# Altium footprint library vga.PcbLib: 95 footprints (part 6 of 7)
Each footprint in its own frame and in the unit in brackets; x right, y up, seen from the top. Pads: shape width x height; smd on the part's side, far side on the other; paste and mask are expansions set on the pad; w line width, h text height; cw(c..) or ccw(c..) is an arc to the next point about the centre after c.
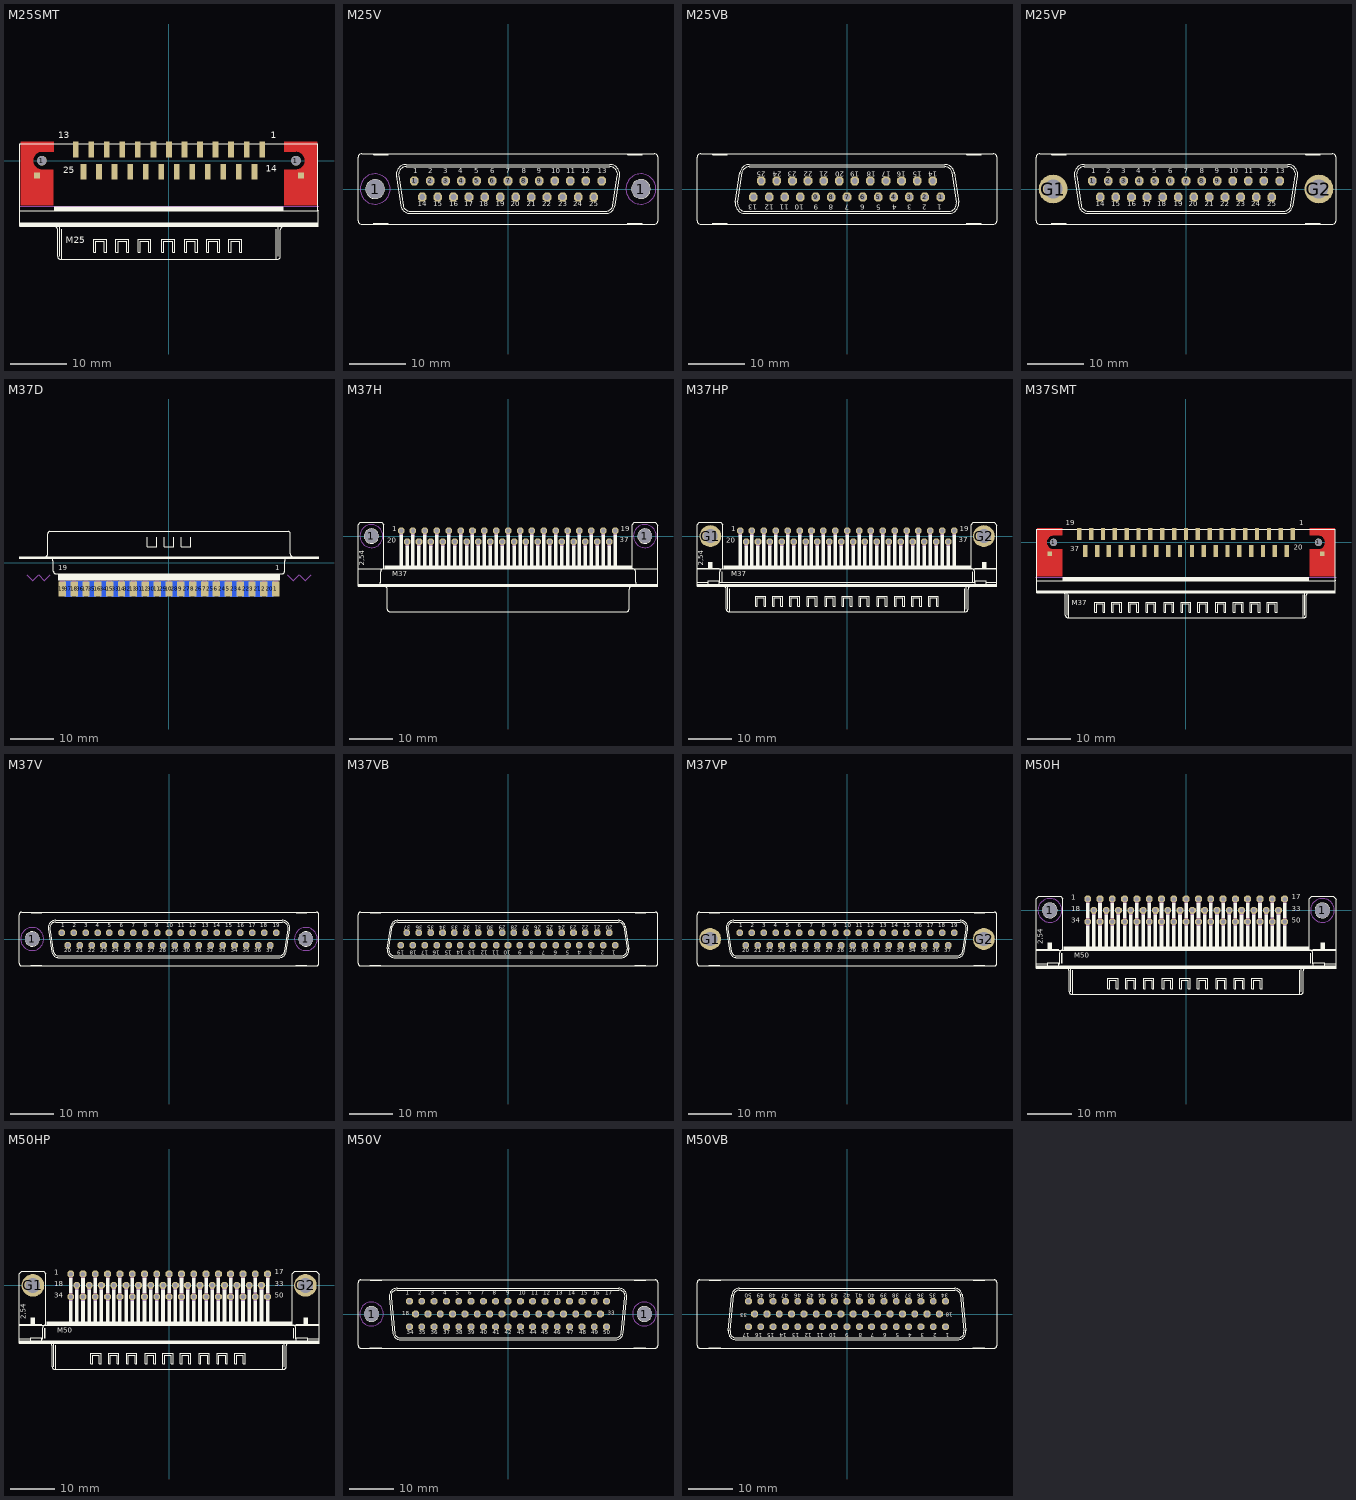
[diagram p5: the footprints below, top view; thin cyan lines are the x and y axes]

## M25SMT [mil]
pads (29):
  round 67 hole 67: 1(-888.58,0) 1(889,0)
  rect 40x111 smd: 1(652,78) 2(544,78) 3(435,78) 4(326,78) 5(218,78) 6(109,78) 7(0,78) 8(-108.66,78) 9(-217.32,78) 10(-325.98,78) 11(-434.65,78) 12(-543.31,78) 13(-651.97,78) 14(598,-77.76) 15(489,-77.76) 16(381,-77.76) 17(272,-77.76) 18(163,-77.76) 19(55,-77.76) 20(-54.33,-77.76) 21(-162.99,-77.76) 22(-271.65,-77.76) 23(-380.31,-77.76) 24(-488.98,-77.76) 25(-597.64,-77.76)
  rect 40x40 smd: S@1(924,-104.33) S@2(-923.03,-103.35)
Top Layer:
  region: -1036.52,-312.5 -807.87,-312.5 -807.87,-62.5 -886.52,-62.8 -898.82,-61.59 -910.65,-58 -921.55,-52.18 -931.1,-44.34 -938.94,-34.78 -944.77,-23.88 -948.36,-12.05 -949.57,0.25 -948.36,12.55 -944.77,24.38 -938.94,35.28 -931.1,44.84 -921.55,52.68 -910.65,58.5 -898.82,62.09 -886.52,63.3 -886.52,63 -806.89,63 -806.89,131 -1036.52,131
  region: 1037,-312.5 808,-312.5 808,-62.5 887,-62.8 887.01,-62.8 899.31,-61.59 911.13,-58 922.04,-52.18 931.59,-44.34 939.43,-34.78 945.26,-23.88 948.85,-12.05 950.06,0.25 948.85,12.55 945.26,24.38 939.43,35.28 931.59,44.84 922.04,52.68 911.13,58.5 899.31,62.09 887.01,63.3 887,63.3 887,63 807,63 807,131 1037,131
Top Overlay:
  rectangle: -799.21,-351.18 799,-321.18
  rectangle: -1045.28,-460 1045,-434.65
  lines w6: -804.02,-460 cw(c-804.02,-485) -779.02,-485 -779.02,-670 ccw(c-759.02,-670) -759.02,-690 -749.02,-690 ; -764.02,-670 -764.02,-460 ; -749.02,-480 -749.02,-690 ; 750,-480 750,-690 ; 765,-670 765,-460 ; 805,-460 ccw(c805,-485) 780,-485 780,-670 cw(c760,-670) 760,-690 750,-690 ; -1044.02,-351.18 -1044.02,-460 -764.02,-460 ; -1044.02,-351.18 -1042.13,-346.18 -1042.13,119 1043,119 1043,-346.18 1045,-351.18 ; -1044.02,-351.18 -799.02,-351.18 ; -799.02,-351.18 800,-351.18 ; -799.02,-351.18 -799.02,-321.18 800,-321.18 800,-351.18 ; -764.02,-460 765,-460 ; -749.02,-690 750,-690 ; 765,-460 1045,-460 1045,-351.18 ; 800,-351.18 1045,-351.18 ; -525.98,-640 -510.98,-640 -510.98,-565 -450.98,-565 -450.98,-640 -435.98,-640 -435.98,-550 -525.98,-550 -525.98,-640 ; -370.98,-640 -355.98,-640 -355.98,-565 -295.98,-565 -295.98,-640 -280.98,-640 -280.98,-550 -370.98,-550 -370.98,-640 ; -215.98,-640 -200.98,-640 -200.98,-565 -140.98,-565 -140.98,-640 -125.98,-640 -125.98,-550 -215.98,-550 -215.98,-640 ; -50.98,-640 -35.98,-640 -35.98,-565 25,-565 25,-640 40,-640 40,-550 -50.98,-550 -50.98,-640 ; 110,-640 125,-640 125,-565 185,-565 185,-640 200,-640 200,-550 110,-550 110,-640 ; 265,-640 280,-640 280,-565 340,-565 340,-640 355,-640 355,-550 265,-550 265,-640 ; 420,-640 435,-640 435,-565 495,-565 495,-640 510,-640 510,-550 420,-550 420,-640
  text "13" at -775,138 h77.5
  text "1" at 713,138 h77.5
  text "25" at -740.63,-105.59 h77.5
  text "14" at 676,-93.7 h77.5
  text "M25" at -721.22,-594.65 h77.5
Mechanical 1:
  lines w0: -1049.11,-318.9 1050,-318.9
Mechanical 2:
  text ">NAME" at 538,213 h108.5
Mechanical 4:
  text ">VALUE" at -887.5,213 h108.5

## M25V [mil]
pads (27):
  round 130 hole 130: 1(-926,0) 1(926,0)
  oct 60x60 hole 40: 1(-652,56) 2(-543,56) 3(-435,56) 4(-326,56) 5(-217,56) 6(-109,56) 7(0,56) 8(109,56) 9(217,56) 10(326,56) 11(435,56) 12(543,56) 13(652,56) 14(-598,-56) 15(-489,-56) 16(-380,-56) 17(-272,-56) 18(-163,-56) 19(-54,-56) 20(54,-56) 21(163,-56) 22(272,-56) 23(380,-56) 24(489,-56) 25(598,-56)
Top Overlay:
  circle w6: c-926,-1 r65
  circle w6: c926,0 r65
  lines w6: -777,92 -746,-116 ; -776.68,89 cw(c-710.14,102.17) -710,170 710,170 cw(c710.29,102.03) 777,89 ; -762,92 -731,-116 ; -761.97,92 cw(c-710.16,102.2) -710,155 710,155 cw(c710.22,102.06) 762,91 731,-115 ; -747.4,-110.99 ccw(c-680,-102) -680,-170 680,-170 ccw(c680.04,-101.94) 748,-105.7 ; -731.3,-115.33 ccw(c-680,-102) -680,-155 680,-155 ccw(c680.23,-101.7) 732,-114.37 ; 747,-113 777,91 ; -935,-245 -935,-240 -835,-240 -835,-245 ; -935,-245 -835,-245 ; -935,-245 -1020,-245 cw(c-1020,-220) -1045,-220 -1045,220 cw(c-1020,220) -1020,245 -935,245 ; -935,245 -935,240 -835,240 -835,245 ; -935,245 -835,245 ; -835,-245 835,-245 ; -835,245 835,245 ; 835,-245 835,-240 935,-240 935,-245 ; 835,-245 935,-245 ; 835,245 835,240 935,240 935,245 ; 835,245 935,245 ; 935,-245 1020,-245 ccw(c1020,-220) 1045,-220 1045,220 ccw(c1020,220) 1020,245 935,245
  text "1" at -660,95 h60.45
  text "2" at -555,95 h60.45
  text "3" at -450,95 h60.45
  text "4" at -345,95 h60.45
  text "5" at -235,95 h60.45
  text "6" at -125,95 h60.45
  text "7" at -15,95 h60.45
  text "8" at 95,95 h60.45
  text "9" at 200,95 h60.45
  text "10" at 300,95 h60.45
  text "11" at 405,95 h60.45
  text "12" at 510,95 h60.45
  text "13" at 625,95 h60.45
  text "14" at -630,-135 h60.45
  text "15" at -520,-135 h60.45
  text "16" at -410,-135 h60.45
  text "17" at -305,-135 h60.45
  text "18" at -200,-135 h60.45
  text "19" at -85,-135 h60.45
  text "20" at 20,-135 h60.45
  text "21" at 130,-135 h60.45
  text "22" at 240,-135 h60.45
  text "23" at 350,-135 h60.45
  text "24" at 455,-135 h60.45
  text "25" at 565,-135 h60.45
Mechanical 2:
  text ">NAME" at -1035,275 h108.5
Mechanical 4:
  text ">VALUE" at -100,275 h108.5
Mechanical 9:
  circle w0: c926,0 r105
  circle w0: c-926,0 r105
Mechanical 10:
  circle w0: c926,0 r105
  circle w0: c-926,0 r105
Mechanical 16:
  circle w16: c-109,56 r10
  circle w16: c-163,-56 r10
  circle w16: c-217,56 r10
  circle w16: c0,56 r10
  circle w16: c-54,-56 r10
  circle w16: c54,-56 r10
  circle w16: c109,56 r10
  circle w16: c217,56 r10
  circle w16: c163,-56 r10
  circle w16: c272,-56 r10
  circle w16: c326,56 r10
  circle w16: c380,-56 r10
  circle w16: c435,56 r10
  circle w16: c489,-56 r10
  circle w16: c543,56 r10
  circle w16: c652,56 r10
  circle w16: c598,-56 r10
  circle w16: c-326,56 r10
  circle w16: c-272,-56 r10
  circle w16: c-380,-56 r10
  circle w16: c-435,56 r10
  circle w16: c-543,56 r10
  circle w16: c-652,56 r10
  circle w16: c-489,-56 r10
  circle w16: c-598,-56 r10

## M25VB [mil]
pads (25):
  oct 60x60 hole 40: 1(652,-56) 2(543,-56) 3(435,-56) 4(326,-56) 5(217,-56) 6(109,-56) 7(0,-56) 8(-109,-56) 9(-217,-56) 10(-326,-56) 11(-435,-56) 12(-543,-56) 13(-652,-56) 14(598,56) 15(489,56) 16(380,56) 17(272,56) 18(163,56) 19(54,56) 20(-54,56) 21(-163,56) 22(-272,56) 23(-380,56) 24(-489,56) 25(-598,56)
Top Overlay:
  lines w6: -777,-91 -747,113 ; -776.69,-88.67 ccw(c-710,-101.99) -710,-170 710,-170 ccw(c710.16,-101.87) 777,-88.67 ; -762,-91 -731,115 ; -761.79,-90.7 ccw(c-710,-101.99) -710,-155 710,-155 ccw(c710.01,-101.99) 762,-91.61 ; -747.89,106 cw(c-680.14,102.15) -680,170 680,170 cw(c680.3,101.66) 748,111 ; -731.52,115 cw(c-680.39,102.31) -680,155 680,155 cw(c680.78,101.88) 732,116 ; 731,116 762,-92 ; 746,116 777,-92 ; -935,-245 -1020,-245 cw(c-1020,-220) -1045,-220 -1045,220 cw(c-1020,220) -1020,245 -935,245 ; -935,-245 -935,-240 -835,-240 -835,-245 ; -935,-245 -835,-245 ; -935,245 -835,245 ; -935,245 -935,240 -835,240 -835,245 ; -835,-245 835,-245 ; -835,245 835,245 ; 835,-245 835,-240 935,-240 935,-245 ; 835,-245 935,-245 ; 835,245 935,245 ; 835,245 835,240 935,240 935,245 ; 935,-245 1020,-245 ccw(c1020,-220) 1045,-220 1045,220 ccw(c1020,220) 1020,245 935,245
  text "1" at 660,-95 h60.45
  text "2" at 555,-95 h60.45
  text "3" at 450,-95 h60.45
  text "4" at 345,-95 h60.45
  text "5" at 235,-95 h60.45
  text "6" at 125,-95 h60.45
  text "7" at 15,-95 h60.45
  text "8" at -95,-95 h60.45
  text "9" at -200,-95 h60.45
  text "10" at -300,-95 h60.45
  text "11" at -405,-95 h60.45
  text "12" at -510,-95 h60.45
  text "13" at -625,-95 h60.45
  text "14" at 630,135 h60.45
  text "15" at 520,135 h60.45
  text "16" at 410,135 h60.45
  text "17" at 305,135 h60.45
  text "18" at 200,135 h60.45
  text "19" at 85,135 h60.45
  text "20" at -20,135 h60.45
  text "21" at -130,135 h60.45
  text "22" at -240,135 h60.45
  text "23" at -350,135 h60.45
  text "24" at -455,135 h60.45
  text "25" at -565,135 h60.45
Mechanical 2:
  text ">NAME" at -1035,275 h108.5
Mechanical 4:
  text ">VALUE" at -100,275 h108.5
Mechanical 16:
  circle w16: c109,-56 r10
  circle w16: c163,56 r10
  circle w16: c217,-56 r10
  circle w16: c0,-56 r10
  circle w16: c54,56 r10
  circle w16: c-54,56 r10
  circle w16: c-109,-56 r10
  circle w16: c-217,-56 r10
  circle w16: c-163,56 r10
  circle w16: c-272,56 r10
  circle w16: c-326,-56 r10
  circle w16: c-380,56 r10
  circle w16: c-435,-56 r10
  circle w16: c-489,56 r10
  circle w16: c-543,-56 r10
  circle w16: c-652,-56 r10
  circle w16: c-598,56 r10
  circle w16: c326,-56 r10
  circle w16: c272,56 r10
  circle w16: c380,56 r10
  circle w16: c435,-56 r10
  circle w16: c543,-56 r10
  circle w16: c652,-56 r10
  circle w16: c489,56 r10
  circle w16: c598,56 r10

## M25VP [mil]
pads (27):
  oct 60x60 hole 40: 1(-652,56) 2(-543,56) 3(-435,56) 4(-326,56) 5(-217,56) 6(-109,56) 7(0,56) 8(109,56) 9(217,56) 10(326,56) 11(435,56) 12(543,56) 13(652,56) 14(-598,-56) 15(-489,-56) 16(-380,-56) 17(-272,-56) 18(-163,-56) 19(-54,-56) 20(54,-56) 21(163,-56) 22(272,-56) 23(380,-56) 24(489,-56) 25(598,-56)
  round 200 hole 130: G1(-926,0) G2(926,0)
Top Overlay:
  circle w6: c-926,-1 r65
  circle w6: c926,0 r65
  lines w6: -777,92 -746,-116 ; -776.68,89 cw(c-710.14,102.17) -710,170 710,170 cw(c710.29,102.03) 777,89 ; -762,92 -731,-116 ; -761.97,92 cw(c-710.16,102.2) -710,155 710,155 cw(c710.22,102.06) 762,91 731,-115 ; -747.4,-110.99 ccw(c-680,-102) -680,-170 680,-170 ccw(c680.04,-101.94) 748,-105.7 ; -731.3,-115.33 ccw(c-680,-102) -680,-155 680,-155 ccw(c680.23,-101.7) 732,-114.37 ; 747,-113 777,91 ; -935,-245 -935,-240 -835,-240 -835,-245 ; -935,-245 -835,-245 ; -935,-245 -1020,-245 cw(c-1020,-220) -1045,-220 -1045,220 cw(c-1020,220) -1020,245 -935,245 ; -935,245 -935,240 -835,240 -835,245 ; -935,245 -835,245 ; -835,-245 835,-245 ; -835,245 835,245 ; 835,-245 835,-240 935,-240 935,-245 ; 835,-245 935,-245 ; 835,245 835,240 935,240 935,245 ; 835,245 935,245 ; 935,-245 1020,-245 ccw(c1020,-220) 1045,-220 1045,220 ccw(c1020,220) 1020,245 935,245
  text "1" at -660,95 h60.45
  text "2" at -555,95 h60.45
  text "3" at -450,95 h60.45
  text "4" at -345,95 h60.45
  text "5" at -235,95 h60.45
  text "6" at -125,95 h60.45
  text "7" at -15,95 h60.45
  text "8" at 95,95 h60.45
  text "9" at 200,95 h60.45
  text "10" at 300,95 h60.45
  text "11" at 405,95 h60.45
  text "12" at 510,95 h60.45
  text "13" at 625,95 h60.45
  text "14" at -630,-135 h60.45
  text "15" at -520,-135 h60.45
  text "16" at -410,-135 h60.45
  text "17" at -305,-135 h60.45
  text "18" at -200,-135 h60.45
  text "19" at -85,-135 h60.45
  text "20" at 20,-135 h60.45
  text "21" at 130,-135 h60.45
  text "22" at 240,-135 h60.45
  text "23" at 350,-135 h60.45
  text "24" at 455,-135 h60.45
  text "25" at 565,-135 h60.45
Mechanical 2:
  text ">NAME" at -1035,275 h108.5
Mechanical 4:
  text ">VALUE" at -100,275 h108.5
Mechanical 16:
  circle w16: c-109,56 r10
  circle w16: c-163,-56 r10
  circle w16: c-217,56 r10
  circle w16: c0,56 r10
  circle w16: c-54,-56 r10
  circle w16: c54,-56 r10
  circle w16: c109,56 r10
  circle w16: c217,56 r10
  circle w16: c163,-56 r10
  circle w16: c272,-56 r10
  circle w16: c326,56 r10
  circle w16: c380,-56 r10
  circle w16: c435,56 r10
  circle w16: c489,-56 r10
  circle w16: c543,56 r10
  circle w16: c652,56 r10
  circle w16: c598,-56 r10
  circle w16: c-326,56 r10
  circle w16: c-272,-56 r10
  circle w16: c-380,-56 r10
  circle w16: c-435,56 r10
  circle w16: c-543,56 r10
  circle w16: c-652,56 r10
  circle w16: c-489,-56 r10
  circle w16: c-598,-56 r10

## M37D [mil]
pads (37):
  rect 67x138 smd: 1(973,-237.99) 2(865,-237.98) 3(756,-237.98) 4(649,-237.98) 5(540,-237.99) 6(432,-237.98) 7(325,-237.98) 8(216,-237.98) 9(109,-237.98) 10(0,-237.99) 11(-108.01,-237.98) 12(-215.99,-237.98) 13(-324.01,-237.98) 14(-431.99,-237.98) 15(-540,-237.99) 16(-648.01,-237.98) 17(-755.99,-237.98) 18(-864.01,-237.98) 19(-972.01,-237.99)
  rect 67x138 smd far side: 20(918,-238) 21(810,-238) 22(702,-238) 23(594,-238) 24(486,-238) 25(378,-238) 26(270,-238) 27(162,-238) 28(54,-238) 29(-54,-238) 30(-162,-238) 31(-270,-238) 32(-378,-238) 33(-486,-238) 34(-594,-238) 35(-702,-238) 36(-810,-238) 37(-918,-238)
Top Overlay:
  rectangle: -1366.14,36 1367,56
  rectangle: -1011.81,-161.42 1012,-98.43
  lines w6: -1129.02,56 ccw(c-1129.02,81) -1104.02,81 -1104.02,266 cw(c-1084.02,266) -1084.02,286 1085,286 cw(c1085,266) 1105,266 1105,81 ccw(c1130,81) 1130,56 ; -1058,40 -1058,20 -1053,20 -1053,-75 ccw(c-1028,-75) -1028,-100 ; -1028.74,-100 1029,-100 ; -200,235 -200,145 -110,145 -110,235 ; -45,235 -45,145 45,145 45,235 ; 110,235 110,145 200,145 200,235 ; 1028,-100 ccw(c1028,-75) 1053,-75 1053,20 1058,20 1058,40
  text "1" at 967,-85.77 h77.5
  text "19" at -1007.49,-85.77 h77.5
Bottom Overlay:
  text "37" at -869.69,-24.61 h77.5
  text "20" at 963,-28.54 h77.5
Mechanical 2:
  text ">NAME" at -404,-454 h108.5
Mechanical 4:
  text ">VALUE" at -4,-454 h108.5
Mechanical 13:
  lines w10: -1296,-108 -1242,-162 -1188,-108 -1134,-162 -1080,-108 ; 1080,-108 1134,-162 1188,-108 1242,-162 1296,-108
  text "Board" at -1298,-100 h77.5
  text "Board" at 1098,-100 h77.5
Mechanical 16:
  rectangle: 949,-258.27 996,-159.84
  rectangle: 841,-258.27 888,-159.84
  rectangle: 733,-258.27 780,-159.84
  rectangle: 625,-258.27 672,-159.84
  rectangle: 517,-258.27 564,-159.84
  rectangle: 409,-258.27 456,-159.84
  rectangle: 301,-258.27 348,-159.84
  rectangle: 193,-258.27 240,-159.84
  rectangle: 85,-258.27 132,-159.84
  rectangle: -23.62,-258.27 24,-159.84
  rectangle: -131.62,-258.27 -84.38,-159.84
  rectangle: -239.62,-258.27 -192.38,-159.84
  rectangle: -347.62,-258.27 -300.38,-159.84
  rectangle: -455.62,-258.27 -408.38,-159.84
  rectangle: -563.62,-258.27 -516.38,-159.84
  rectangle: -671.62,-258.27 -624.38,-159.84
  rectangle: -779.62,-258.27 -732.38,-159.84
  rectangle: -887.62,-258.27 -840.38,-159.84
  rectangle: -995.62,-258.27 -948.38,-159.84
  text "M37D" at -1002,181 h77.5
Mechanical 30:
  rectangle: 895,-258.27 942,-159.84
  rectangle: 787,-258.27 834,-159.84
  rectangle: 679,-258.27 726,-159.84
  rectangle: 571,-258.27 618,-159.84
  rectangle: 463,-258.27 510,-159.84
  rectangle: 355,-258.27 402,-159.84
  rectangle: 247,-258.27 294,-159.84
  rectangle: 139,-258.27 186,-159.84
  rectangle: 31,-258.27 78,-159.84
  rectangle: -77.62,-258.27 -30.38,-159.84
  rectangle: -185.62,-258.27 -138.38,-159.84
  rectangle: -293.62,-258.27 -246.38,-159.84
  rectangle: -401.62,-258.27 -354.38,-159.84
  rectangle: -509.62,-258.27 -462.38,-159.84
  rectangle: -617.62,-258.27 -570.38,-159.84
  rectangle: -725.62,-258.27 -678.38,-159.84
  rectangle: -833.62,-258.27 -786.38,-159.84
  rectangle: -941.62,-258.27 -894.38,-159.84

## M37H [mil]
pads (39):
  round 130 hole 130: 1(-1250,0) 1(1250,0)
  oct 60x60 hole 40: 1(-978,50) 2(-870,50) 3(-761,50) 4(-652,50) 5(-544,50) 6(-435,50) 7(-326,50) 8(-217,50) 9(-109,50) 10(0,50) 11(109,50) 12(217,50) 13(326,50) 14(435,50) 15(543,50) 16(652,50) 17(761,50) 18(869,50) 19(978,50) 20(-924,-50) 21(-815,-50) 22(-707,-50) 23(-598,-50) 24(-489,-50) 25(-380,-50) 26(-272,-50) 27(-163,-50) 28(-54,-50) 29(54,-50) 30(163,-50) 31(272,-50) 32(380,-50) 33(489,-50) 34(598,-50) 35(706,-50) 36(815,-50) 37(924,-50)
Top Overlay:
  circle w6: c1250,0 r65
  circle w6: c-1250,0 r65
  rectangle: -1125,-300 1125,-270
  rectangle: -1370,-460 1370,-440
  rectangle: -994,-269 -962,16
  rectangle: -940,-269 -908,-84
  rectangle: -886,-269 -854,16
  rectangle: -831,-269 -799,-84
  rectangle: -777,-269 -745,16
  rectangle: -723,-269 -691,-84
  rectangle: -668,-269 -636,16
  rectangle: -614,-269 -582,-84
  rectangle: -560,-270 -528,15
  rectangle: -505,-270 -473,-85
  rectangle: -451,-270 -419,15
  rectangle: -396,-270 -364,-85
  rectangle: -342,-270 -310,15
  rectangle: -288,-270 -256,-85
  rectangle: -233,-270 -201,15
  rectangle: -179,-270 -147,-85
  rectangle: -125,-270 -93,15
  rectangle: -70,-270 -38,-85
  rectangle: -16,-270 16,15
  rectangle: 38,-270 70,-85
  rectangle: 93,-270 125,15
  rectangle: 147,-270 179,-85
  rectangle: 201,-270 233,15
  rectangle: 256,-270 288,-85
  rectangle: 310,-270 342,15
  rectangle: 364,-270 396,-85
  rectangle: 419,-270 451,15
  rectangle: 473,-270 505,-85
  rectangle: 527,-270 559,15
  rectangle: 582,-270 614,-85
  rectangle: 636,-270 668,15
  rectangle: 690,-270 722,-85
  rectangle: 745,-270 777,15
  rectangle: 799,-270 831,-85
  rectangle: 853,-270 885,15
  rectangle: 908,-270 940,-85
  rectangle: 962,-270 994,15
  lines w6: -1170,-440 -1170,-420 -1165,-420 -1165,-325 cw(c-1140,-325) -1140,-300 ; -1130,-460 cw(c-1130,-485) -1105,-485 -1105,-670 ccw(c-1085,-670) -1085,-690 -1075,-690 1075,-690 1085,-690 ccw(c1085,-670) 1105,-670 1105,-485 cw(c1130,-485) 1130,-460 ; 1140,-300 cw(c1140,-325) 1165,-325 1165,-420 1170,-420 1170,-440 ; -1370,-300 -1370,-420 -1370,-440 -1370,-460 -1090,-460 1090,-460 1370,-460 1370,-440 1370,-420 1370,-300 ; -1370,-300 -1370,-295 -1370,105 -1350,125 -1155,125 -1135,105 -1135,-300 ; -1370,-300 -1170,-300 -1135,-300 ; -1135,-300 -1125,-300 ; -1125,-300 1125,-300 ; -1125,-300 -1125,-270 1125,-270 1125,-300 ; 1125,-300 1135,-300 ; 1135,-300 1170,-300 1370,-300 ; 1135,-300 1135,105 1155,125 1345,125 1370,100 1370,-295 1370,-300
  text "1" at -1060,25 h77.5
  text "19" at 1030,25 h77.5
  text "20" at -1105,-80 h77.5
  text "37" at 1020,-75 h77.5
  text "2,54" at -1295,-270 h77.5
  text "M37" at -1060,-385 h77.5
Mechanical 2:
  text ">NAME" at -1365,175 h108.5
Mechanical 4:
  text ">VALUE" at -1025,-805 h108.5
Mechanical 9:
  circle w0: c1250,0 r105
  circle w0: c-1250,0 r105
Mechanical 10:
  circle w0: c1250,0 r105
  circle w0: c-1250,0 r105
Mechanical 16:
  lines w32: -978,5 -978,45 ; -924,-94 -924,-54 ; -870,5 -870,45 ; -815,-94 -815,-54 ; -761,5 -761,45 ; -707,-94 -707,-54 ; -652,5 -652,45 ; -598,-95 -598,-55 ; -544,5 -544,45 ; -489,-95 -489,-55 ; -435,5 -435,45 ; -380,-95 -380,-55 ; -326,5 -326,45 ; -272,-95 -272,-55 ; -217,5 -217,45 ; -163,-95 -163,-55 ; -109,5 -109,45 ; -54,-95 -54,-55 ; 0,5 0,45 ; 54,-95 54,-55 ; 109,5 109,45 ; 163,-95 163,-55 ; 217,5 217,45 ; 272,-95 272,-55 ; 326,5 326,45 ; 380,-95 380,-55 ; 435,5 435,45 ; 489,-95 489,-55 ; 543,5 543,45 ; 598,-95 598,-55 ; 652,5 652,45 ; 706,-95 706,-55 ; 761,5 761,45 ; 815,-95 815,-55 ; 869,5 869,45 ; 924,-95 924,-55 ; 978,5 978,45

## M37HP [mil]
pads (39):
  oct 60x60 hole 40: 1(-978,50) 2(-870,50) 3(-761,50) 4(-652,50) 5(-544,50) 6(-435,50) 7(-326,50) 8(-217,50) 9(-109,50) 10(0,50) 11(109,50) 12(217,50) 13(326,50) 14(435,50) 15(543,50) 16(652,50) 17(761,50) 18(869,50) 19(978,50) 20(-924,-50) 21(-815,-50) 22(-707,-50) 23(-598,-50) 24(-489,-50) 25(-380,-50) 26(-272,-50) 27(-163,-50) 28(-54,-50) 29(54,-50) 30(163,-50) 31(272,-50) 32(380,-50) 33(489,-50) 34(598,-50) 35(706,-50) 36(815,-50) 37(924,-50)
  round 200 hole 130: G1(-1250,0) G2(1250,0)
Top Overlay:
  drawing of 207 lines, arcs and shapes, not listed
  text "1" at -1060,25 h77.5
  text "19" at 1030,25 h77.5
  text "20" at -1105,-80 h77.5
  text "37" at 1020,-75 h77.5
  text "2,54" at -1295,-270 h77.5
  text "M37" at -1060,-385 h77.5
Mechanical 2:
  text ">NAME" at -1365,175 h108.5
Mechanical 4:
  text ">VALUE" at -1025,-805 h108.5
Mechanical 16:
  lines w32: -978,5 -978,45 ; -924,-94 -924,-54 ; -870,5 -870,45 ; -815,-94 -815,-54 ; -761,6 -761,46 ; -707,-94 -707,-54 ; -652,5 -652,45 ; -598,-95 -598,-55 ; -544,5 -544,45 ; -489,-95 -489,-55 ; -435,5 -435,45 ; -380,-95 -380,-55 ; -326,5 -326,45 ; -272,-95 -272,-55 ; -217,5 -217,45 ; -163,-95 -163,-55 ; -109,5 -109,45 ; -54,-95 -54,-55 ; 0,5 0,45 ; 54,-95 54,-55 ; 109,5 109,45 ; 163,-95 163,-55 ; 217,5 217,45 ; 272,-95 272,-55 ; 326,5 326,45 ; 380,-95 380,-55 ; 435,5 435,45 ; 489,-95 489,-55 ; 543,5 543,45 ; 598,-95 598,-55 ; 652,5 652,45 ; 706,-95 706,-55 ; 761,5 761,45 ; 815,-95 815,-55 ; 869,5 869,45 ; 924,-95 924,-55 ; 978,5 978,45

## M37SMT [mil]
pads (41):
  round 67 hole 67: 1(-1214.57,0) 1(1215,0)
  rect 40x111 smd: 1(978,78) 2(870,78) 3(761,78) 4(652,78) 5(544,78) 6(435,78) 7(326,78) 8(218,78) 9(109,78) 10(0,78) 11(-108.66,78) 12(-217.32,78) 13(-325.98,78) 14(-434.65,78) 15(-543.31,78) 16(-651.97,78) 17(-760.63,78) 18(-869.29,78) 19(-977.95,78) 20(924,-77.76) 21(815,-77.76) 22(707,-77.76) 23(598,-77.76) 24(489,-77.76) 25(381,-77.76) 26(272,-77.76) 27(163,-77.76) 28(55,-77.76) 29(-54.33,-77.76) 30(-162.99,-77.76) 31(-271.65,-77.76) 32(-380.31,-77.76) 33(-488.98,-77.76) 34(-597.64,-77.76) 35(-706.3,-77.76) 36(-814.96,-77.76) 37(-923.62,-77.76)
  rect 40x40 smd: S@1(1250,-104.33) S@2(-1249.02,-103.35)
Top Layer:
  region: -1362.5,-312.5 -1133.86,-312.5 -1133.86,-62.5 -1212.5,-62.8 -1224.8,-61.59 -1236.63,-58 -1247.53,-52.18 -1257.09,-44.34 -1264.93,-34.78 -1270.75,-23.88 -1274.34,-12.05 -1275.55,0.25 -1274.34,12.55 -1270.75,24.38 -1264.93,35.28 -1257.09,44.84 -1247.53,52.68 -1236.63,58.5 -1224.8,62.09 -1212.5,63.3 -1212.5,63 -1132.87,63 -1132.87,131 -1362.5,131
  region: 1363,-312.5 1134,-312.5 1134,-62.5 1213,-62.8 1213.01,-62.8 1225.31,-61.59 1237.13,-58 1248.04,-52.18 1257.59,-44.34 1265.43,-34.78 1271.26,-23.88 1274.85,-12.05 1276.06,0.25 1274.85,12.55 1271.26,24.38 1265.43,35.28 1257.59,44.84 1248.04,52.68 1237.13,58.5 1225.31,62.09 1213.01,63.3 1213,63.3 1213,63 1133,63 1133,131 1363,131
Top Overlay:
  rectangle: -1125,-351.18 1125,-321.18
  rectangle: -1370,-460 1370,-440
  lines w6: -1130,-460 cw(c-1130,-485) -1105,-485 -1105,-670 ccw(c-1085,-670) -1085,-690 -1075,-690 ; -1090,-670 -1090,-460 ; -1075,-480 -1075,-690 ; 1075,-480 1075,-690 ; 1090,-670 1090,-460 ; 1130,-460 ccw(c1130,-485) 1105,-485 1105,-670 cw(c1085,-670) 1085,-690 1075,-690 ; -1370,-351.18 -1370,-460 -1090,-460 ; -1370,-351.18 -1368.11,-346.18 -1368.11,119 1369,119 1369,-346.18 1370,-351.18 ; -1370,-351.18 -1125,-351.18 ; -1125,-351.18 1125,-351.18 ; -1125,-351.18 -1125,-321.18 1125,-321.18 1125,-351.18 ; -1090,-460 1090,-460 ; -1075,-690 1075,-690 ; 1090,-460 1370,-460 1370,-351.18 ; 1125,-351.18 1370,-351.18 ; -835,-640 -820,-640 -820,-565 -760,-565 -760,-640 -745,-640 -745,-550 -835,-550 -835,-640 ; -680,-640 -665,-640 -665,-565 -605,-565 -605,-640 -590,-640 -590,-550 -680,-550 -680,-640 ; -525,-640 -510,-640 -510,-565 -450,-565 -450,-640 -435,-640 -435,-550 -525,-550 -525,-640 ; -365,-640 -350,-640 -350,-565 -290,-565 -290,-640 -275,-640 -275,-550 -365,-550 -365,-640 ; -200,-640 -185,-640 -185,-565 -125,-565 -125,-640 -110,-640 -110,-550 -200,-550 -200,-640 ; -45,-640 -30,-640 -30,-565 30,-565 30,-640 45,-640 45,-550 -45,-550 -45,-640 ; 110,-640 125,-640 125,-565 185,-565 185,-640 200,-640 200,-550 110,-550 110,-640 ; 275,-640 290,-640 290,-565 350,-565 350,-640 365,-640 365,-550 275,-550 275,-640 ; 435,-640 450,-640 450,-565 510,-565 510,-640 525,-640 525,-550 435,-550 435,-640 ; 590,-640 605,-640 605,-565 665,-565 665,-640 680,-640 680,-550 590,-550 590,-640 ; 745,-640 760,-640 760,-565 820,-565 820,-640 835,-640 835,-550 745,-550 745,-640
  text "19" at -1100,138 h77.5
  text "1" at 1038,138 h77.5
  text "37" at -1062.5,-100 h77.5
  text "20" at 988,-87.5 h77.5
  text "M37" at -1047.2,-594.65 h77.5
Mechanical 1:
  lines w0: -1375.1,-318.9 1376,-318.9
Mechanical 2:
  text ">NAME" at 850,225 h108.5
Mechanical 4:
  text ">VALUE" at -1212.5,225 h108.5

## M37V [mil]
pads (39):
  round 130 hole 130: 1(-1250,0) 1(1250,0)
  oct 60x60 hole 40: 1(-978,56) 2(-870,56) 3(-761,56) 4(-652,56) 5(-544,56) 6(-435,56) 7(-326,56) 8(-217,56) 9(-109,56) 10(0,56) 11(109,56) 12(217,56) 13(326,56) 14(435,56) 15(543,56) 16(652,56) 17(761,56) 18(869,56) 19(978,56) 20(-924,-56) 21(-815,-56) 22(-707,-56) 23(-598,-56) 24(-489,-56) 25(-380,-56) 26(-272,-56) 27(-163,-56) 28(-54,-56) 29(54,-56) 30(163,-56) 31(272,-56) 32(380,-56) 33(489,-56) 34(598,-56) 35(706,-56) 36(815,-56) 37(924,-56)
Top Overlay:
  circle w6: c-1250,0 r65
  circle w6: c1250,0 r65
  lines w6: -1102,92 -1071,-116 ; -1101.68,89 cw(c-1035.14,102.17) -1035,170 1035,170 cw(c1035.29,102.03) 1102,89 ; -1087,92 -1056,-116 ; -1086.97,92 cw(c-1035.16,102.2) -1035,155 1035,155 cw(c1035.22,102.06) 1087,91 1056,-115 ; -1072.4,-110.99 ccw(c-1005,-102) -1005,-170 1005,-170 ccw(c1005.04,-101.94) 1073,-105.7 ; -1056.3,-115.33 ccw(c-1005,-102) -1005,-155 1005,-155 ccw(c1005.23,-101.7) 1057,-114.37 ; 1072,-113 1102,91 ; -1260,-245 -1260,-240 -1160,-240 -1160,-245 ; -1260,-245 -1160,-245 ; -1260,-245 -1345,-245 cw(c-1345,-220) -1370,-220 -1370,220 cw(c-1345,220) -1345,245 -1260,245 ; -1260,245 -1260,240 -1160,240 -1160,245 ; -1260,245 -1160,245 ; -1160,-245 1160,-245 ; -1160,245 1160,245 ; 1160,-245 1160,-240 1260,-240 1260,-245 ; 1160,-245 1260,-245 ; 1160,245 1160,240 1260,240 1260,245 ; 1160,245 1260,245 ; 1260,-245 1345,-245 ccw(c1345,-220) 1370,-220 1370,220 ccw(c1345,220) 1345,245 1260,245
  text "1" at -986,95 h60.45
  text "2" at -881,95 h60.45
  text "3" at -776,95 h60.45
  text "4" at -671,95 h60.45
  text "5" at -561,95 h60.45
  text "6" at -451,95 h60.45
  text "7" at -341,95 h60.45
  text "8" at -231,95 h60.45
  text "9" at -126,95 h60.45
  text "10" at -26,95 h60.45
  text "11" at 79,95 h60.45
  text "12" at 184,95 h60.45
  text "13" at 299,95 h60.45
  text "14" at 404,95 h60.45
  text "15" at 514,95 h60.45
  text "16" at 624,95 h60.45
  text "17" at 729,95 h60.45
  text "18" at 834,95 h60.45
  text "19" at 949,95 h60.45
  text "20" at -958,-135 h60.45
  text "21" at -848,-135 h60.45
  text "22" at -738,-135 h60.45
  text "23" at -628,-135 h60.45
  text "24" at -523,-135 h60.45
  text "25" at -413,-135 h60.45
  text "26" at -305,-135 h60.45
  text "27" at -195,-135 h60.45
  text "28" at -90,-135 h60.45
  text "29" at 20,-135 h60.45
  text "30" at 130,-135 h60.45
  text "31" at 240,-135 h60.45
  text "32" at 345,-135 h60.45
  text "33" at 455,-135 h60.45
  text "34" at 565,-135 h60.45
  text "35" at 675,-135 h60.45
  text "36" at 780,-135 h60.45
  text "37" at 890,-135 h60.45
Mechanical 2:
  text ">NAME" at -1360,275 h108.5
Mechanical 4:
  text ">VALUE" at -100,275 h108.5
Mechanical 9:
  circle w0: c1250,0 r105
  circle w0: c-1250,0 r105
Mechanical 10:
  circle w0: c1250,0 r105
  circle w0: c-1250,0 r105
Mechanical 16:
  circle w16: c-109,56 r10
  circle w16: c-163,-56 r10
  circle w16: c-217,56 r10
  circle w16: c0,56 r10
  circle w16: c-54,-56 r10
  circle w16: c54,-56 r10
  circle w16: c109,56 r10
  circle w16: c217,56 r10
  circle w16: c163,-56 r10
  circle w16: c272,-56 r10
  circle w16: c326,56 r10
  circle w16: c380,-56 r10
  circle w16: c435,56 r10
  circle w16: c489,-56 r10
  circle w16: c543,56 r10
  circle w16: c652,56 r10
  circle w16: c598,-56 r10
  circle w16: c-326,56 r10
  circle w16: c-272,-56 r10
  circle w16: c-380,-56 r10
  circle w16: c-435,56 r10
  circle w16: c-543,56 r10
  circle w16: c-652,56 r10
  circle w16: c-489,-56 r10
  circle w16: c-598,-56 r10
  circle w16: c761,56 r10
  circle w16: c869,56 r10
  circle w16: c978,56 r10
  circle w16: c706,-56 r10
  circle w16: c815,-56 r10
  circle w16: c924,-56 r10
  circle w16: c-761,56 r10
  circle w16: c-869,56 r10
  circle w16: c-978,56 r10
  circle w16: c-706,-56 r10
  circle w16: c-815,-56 r10
  circle w16: c-924,-56 r10

## M37VB [mil]
pads (37):
  oct 60x60 hole 40: 1(978,-56) 2(870,-56) 3(761,-56) 4(652,-56) 5(544,-56) 6(435,-56) 7(326,-56) 8(217,-56) 9(109,-56) 10(0,-56) 11(-109,-56) 12(-217,-56) 13(-326,-56) 14(-435,-56) 15(-543,-56) 16(-652,-56) 17(-761,-56) 18(-869,-56) 19(-978,-56) 20(924,56) 21(815,56) 22(707,56) 23(598,56) 24(489,56) 25(380,56) 26(272,56) 27(163,56) 28(54,56) 29(-54,56) 30(-163,56) 31(-272,56) 32(-380,56) 33(-489,56) 34(-598,56) 35(-706,56) 36(-815,56) 37(-924,56)
Top Overlay:
  lines w6: -1102,-91 -1072,113 ; -1101.69,-88.67 ccw(c-1035,-101.99) -1035,-170 1035,-170 ccw(c1035.16,-101.87) 1102,-88.67 ; -1087,-91 -1056,115 ; -1086.79,-90.7 ccw(c-1035,-101.99) -1035,-155 1035,-155 ccw(c1035.01,-101.99) 1087,-91.61 ; -1072.89,106 cw(c-1005.14,102.15) -1005,170 1005,170 cw(c1005.3,101.66) 1073,111 ; -1056.52,115 cw(c-1005.39,102.31) -1005,155 1005,155 cw(c1005.78,101.88) 1057,116 ; 1056,116 1087,-92 ; 1071,116 1102,-92 ; -1260,-245 -1345,-245 cw(c-1345,-220) -1370,-220 -1370,220 cw(c-1345,220) -1345,245 -1260,245 ; -1260,-245 -1260,-240 -1160,-240 -1160,-245 ; -1260,-245 -1160,-245 ; -1260,245 -1160,245 ; -1260,245 -1260,240 -1160,240 -1160,245 ; -1160,-245 1160,-245 ; -1160,245 1160,245 ; 1160,-245 1160,-240 1260,-240 1260,-245 ; 1160,-245 1260,-245 ; 1160,245 1260,245 ; 1160,245 1160,240 1260,240 1260,245 ; 1260,-245 1345,-245 ccw(c1345,-220) 1370,-220 1370,220 ccw(c1345,220) 1345,245 1260,245
  text "1" at 986,-95 h60.45
  text "2" at 881,-95 h60.45
  text "3" at 776,-95 h60.45
  text "4" at 671,-95 h60.45
  text "5" at 561,-95 h60.45
  text "6" at 451,-95 h60.45
  text "7" at 341,-95 h60.45
  text "8" at 231,-95 h60.45
  text "9" at 126,-95 h60.45
  text "10" at 26,-95 h60.45
  text "11" at -79,-95 h60.45
  text "12" at -184,-95 h60.45
  text "13" at -299,-95 h60.45
  text "14" at -404,-95 h60.45
  text "15" at -514,-95 h60.45
  text "16" at -624,-95 h60.45
  text "17" at -729,-95 h60.45
  text "18" at -834,-95 h60.45
  text "19" at -949,-95 h60.45
  text "20" at 958,135 h60.45
  text "21" at 848,135 h60.45
  text "22" at 738,135 h60.45
  text "23" at 628,135 h60.45
  text "24" at 523,135 h60.45
  text "25" at 413,135 h60.45
  text "26" at 305,135 h60.45
  text "27" at 195,135 h60.45
  text "28" at 90,135 h60.45
  text "29" at -20,135 h60.45
  text "30" at -130,135 h60.45
  text "31" at -240,135 h60.45
  text "32" at -345,135 h60.45
  text "33" at -455,135 h60.45
  text "34" at -565,135 h60.45
  text "35" at -675,135 h60.45
  text "36" at -780,135 h60.45
  text "37" at -890,135 h60.45
Mechanical 2:
  text ">NAME" at -1360,275 h108.5
Mechanical 4:
  text ">VALUE" at -100,275 h108.5
Mechanical 16:
  circle w16: c109,-56 r10
  circle w16: c163,56 r10
  circle w16: c217,-56 r10
  circle w16: c0,-56 r10
  circle w16: c54,56 r10
  circle w16: c-54,56 r10
  circle w16: c-109,-56 r10
  circle w16: c-217,-56 r10
  circle w16: c-163,56 r10
  circle w16: c-272,56 r10
  circle w16: c-326,-56 r10
  circle w16: c-380,56 r10
  circle w16: c-435,-56 r10
  circle w16: c-489,56 r10
  circle w16: c-543,-56 r10
  circle w16: c-652,-56 r10
  circle w16: c-598,56 r10
  circle w16: c326,-56 r10
  circle w16: c272,56 r10
  circle w16: c380,56 r10
  circle w16: c435,-56 r10
  circle w16: c543,-56 r10
  circle w16: c652,-56 r10
  circle w16: c489,56 r10
  circle w16: c598,56 r10
  circle w16: c-761,-56 r10
  circle w16: c-869,-56 r10
  circle w16: c-978,-56 r10
  circle w16: c-706,56 r10
  circle w16: c-815,56 r10
  circle w16: c-924,56 r10
  circle w16: c761,-56 r10
  circle w16: c869,-56 r10
  circle w16: c978,-56 r10
  circle w16: c706,56 r10
  circle w16: c815,56 r10
  circle w16: c924,56 r10

## M37VP [mil]
pads (39):
  oct 60x60 hole 40: 1(-978,56) 2(-870,56) 3(-761,56) 4(-652,56) 5(-544,56) 6(-435,56) 7(-326,56) 8(-217,56) 9(-109,56) 10(0,56) 11(109,56) 12(217,56) 13(326,56) 14(435,56) 15(543,56) 16(652,56) 17(761,56) 18(869,56) 19(978,56) 20(-924,-56) 21(-815,-56) 22(-707,-56) 23(-598,-56) 24(-489,-56) 25(-380,-56) 26(-272,-56) 27(-163,-56) 28(-54,-56) 29(54,-56) 30(163,-56) 31(272,-56) 32(380,-56) 33(489,-56) 34(598,-56) 35(706,-56) 36(815,-56) 37(924,-56)
  round 200 hole 130: G1(-1250,0) G2(1250,0)
Top Overlay:
  circle w6: c-1250,0 r65
  circle w6: c1250,0 r65
  lines w6: -1102,92 -1071,-116 ; -1101.68,89 cw(c-1035.14,102.17) -1035,170 1035,170 cw(c1035.29,102.03) 1102,89 ; -1087,92 -1056,-116 ; -1086.97,92 cw(c-1035.16,102.2) -1035,155 1035,155 cw(c1035.22,102.06) 1087,91 1056,-115 ; -1072.4,-110.99 ccw(c-1005,-102) -1005,-170 1005,-170 ccw(c1005.04,-101.94) 1073,-105.7 ; -1056.3,-115.33 ccw(c-1005,-102) -1005,-155 1005,-155 ccw(c1005.23,-101.7) 1057,-114.37 ; 1072,-113 1102,91 ; -1260,-245 -1260,-240 -1160,-240 -1160,-245 ; -1260,-245 -1160,-245 ; -1260,-245 -1345,-245 cw(c-1345,-220) -1370,-220 -1370,220 cw(c-1345,220) -1345,245 -1260,245 ; -1260,245 -1260,240 -1160,240 -1160,245 ; -1260,245 -1160,245 ; -1160,-245 1160,-245 ; -1160,245 1160,245 ; 1160,-245 1160,-240 1260,-240 1260,-245 ; 1160,-245 1260,-245 ; 1160,245 1160,240 1260,240 1260,245 ; 1160,245 1260,245 ; 1260,-245 1345,-245 ccw(c1345,-220) 1370,-220 1370,220 ccw(c1345,220) 1345,245 1260,245
  text "1" at -986,95 h60.45
  text "2" at -881,95 h60.45
  text "3" at -776,95 h60.45
  text "4" at -671,95 h60.45
  text "5" at -561,95 h60.45
  text "6" at -451,95 h60.45
  text "7" at -341,95 h60.45
  text "8" at -231,95 h60.45
  text "9" at -126,95 h60.45
  text "10" at -26,95 h60.45
  text "11" at 79,95 h60.45
  text "12" at 184,95 h60.45
  text "13" at 299,95 h60.45
  text "14" at 404,95 h60.45
  text "15" at 514,95 h60.45
  text "16" at 624,95 h60.45
  text "17" at 729,95 h60.45
  text "18" at 834,95 h60.45
  text "19" at 949,95 h60.45
  text "20" at -958,-135 h60.45
  text "21" at -848,-135 h60.45
  text "22" at -738,-135 h60.45
  text "23" at -628,-135 h60.45
  text "24" at -523,-135 h60.45
  text "25" at -413,-135 h60.45
  text "26" at -305,-135 h60.45
  text "27" at -195,-135 h60.45
  text "28" at -90,-135 h60.45
  text "29" at 20,-135 h60.45
  text "30" at 130,-135 h60.45
  text "31" at 240,-135 h60.45
  text "32" at 345,-135 h60.45
  text "33" at 455,-135 h60.45
  text "34" at 565,-135 h60.45
  text "35" at 675,-135 h60.45
  text "36" at 780,-135 h60.45
  text "37" at 890,-135 h60.45
Mechanical 2:
  text ">NAME" at -1360,275 h108.5
Mechanical 4:
  text ">VALUE" at -100,275 h108.5
Mechanical 16:
  circle w16: c-109,56 r10
  circle w16: c-163,-56 r10
  circle w16: c-217,56 r10
  circle w16: c0,56 r10
  circle w16: c-54,-56 r10
  circle w16: c54,-56 r10
  circle w16: c109,56 r10
  circle w16: c217,56 r10
  circle w16: c163,-56 r10
  circle w16: c272,-56 r10
  circle w16: c326,56 r10
  circle w16: c380,-56 r10
  circle w16: c435,56 r10
  circle w16: c489,-56 r10
  circle w16: c543,56 r10
  circle w16: c652,56 r10
  circle w16: c598,-56 r10
  circle w16: c-326,56 r10
  circle w16: c-272,-56 r10
  circle w16: c-380,-56 r10
  circle w16: c-435,56 r10
  circle w16: c-543,56 r10
  circle w16: c-652,56 r10
  circle w16: c-489,-56 r10
  circle w16: c-598,-56 r10
  circle w16: c761,56 r10
  circle w16: c869,56 r10
  circle w16: c978,56 r10
  circle w16: c706,-56 r10
  circle w16: c815,-56 r10
  circle w16: c924,-56 r10
  circle w16: c-761,56 r10
  circle w16: c-869,56 r10
  circle w16: c-978,56 r10
  circle w16: c-706,-56 r10
  circle w16: c-815,-56 r10
  circle w16: c-924,-56 r10

## M50H [mil]
pads (52):
  round 130 hole 130: 1(-1203,0) 1(1203,0)
  oct 60x60 hole 40: 1(-869,100) 2(-761,100) 3(-652,100) 4(-543,100) 5(-435,100) 6(-326,100) 7(-217,100) 8(-109,100) 9(0,100) 10(109,100) 11(217,100) 12(326,100) 13(435,100) 14(543,100) 15(652,100) 16(761,100) 17(869,100) 18(-815,0) 19(-706,0) 20(-598,0) 21(-489,0) 22(-380,0) 23(-271,0) 24(-163,0) 25(-54,0) 26(55,0) 27(163,0) 28(272,0) 29(381,0) 30(489,0) 31(598,0) 32(707,0) 33(815,0) 34(-869,-100) 35(-761,-100) 36(-652,-100) 37(-543,-100) 38(-435,-100) 39(-326,-100) 40(-217,-100) 41(-109,-100) 42(0,-100) 43(109,-100) 44(217,-100) 45(326,-100) 46(435,-100) 47(543,-100) 48(652,-100) 49(761,-100) 50(869,-100)
Top Overlay:
  drawing of 201 lines, arcs and shapes, not listed
  text "2,54" at -1248,-300 h77.5
  text "1" at -1013,75 h77.5
  text "17" at 933,80 h77.5
  text "18" at -1013,-25 h77.5
  text "33" at 933,-25 h77.5
  text "50" at 933,-125 h77.5
  text "34" at -1013,-125 h77.5
  text "M50" at -988,-435 h77.5
Mechanical 2:
  text ">NAME" at -1300,200 h108.5
Mechanical 4:
  text ">VALUE" at -953,-855 h108.5
Mechanical 9:
  circle w0: c1203,0 r105
  circle w0: c-1203,0 r105
Mechanical 10:
  circle w0: c1203,0 r105
  circle w0: c-1203,0 r105
Mechanical 16:
  lines w32: -869,-130 -869,-70 ; -869,60 -869,100 ; -815,-40 -815,0 ; -761,-130 -761,-70 ; -761,60 -761,100 ; -706,-40 -706,0 ; -652,-130 -652,-70 ; -652,60 -652,100 ; -598,-40 -598,0 ; -543,-130 -543,-70 ; -543,60 -543,100 ; -489,-40 -489,0 ; -435,-130 -435,-70 ; -435,60 -435,100 ; -380,-40 -380,0 ; -326,-130 -326,-70 ; -326,60 -326,100 ; -272,-40 -272,0 ; -217,-130 -217,-70 ; -217,60 -217,100 ; -163,-40 -163,0 ; -109,-129 -109,-69 ; -109,60 -109,100 ; -54,-40 -54,0 ; 0,-130 0,-70 ; 0,60 0,100 ; 55,-40 55,0 ; 109,-130 109,-70 ; 109,60 109,100 ; 163,-40 163,0 ; 217,-130 217,-70 ; 217,60 217,100 ; 272,-40 272,0 ; 326,-130 326,-70 ; 326,60 326,100 ; 381,-40 381,0 ; 435,-130 435,-70 ; 435,60 435,100 ; 489,-40 489,0 ; 543,-130 543,-70 ; 543,60 543,100 ; 598,-40 598,0 ; 652,-130 652,-70 ; 652,60 652,100 ; 707,-40 707,0 ; 761,-130 761,-70 ; 761,60 761,100 ; 815,-40 815,0 ; 869,-130 869,-70 ; 869,60 869,100

## M50HP [mil]
pads (52):
  oct 60x60 hole 40: 1(-869,100) 2(-761,100) 3(-652,100) 4(-543,100) 5(-435,100) 6(-326,100) 7(-217,100) 8(-109,100) 9(0,100) 10(109,100) 11(217,100) 12(326,100) 13(435,100) 14(543,100) 15(652,100) 16(761,100) 17(869,100) 18(-815,0) 19(-706,0) 20(-598,0) 21(-489,0) 22(-380,0) 23(-271,0) 24(-163,0) 25(-54,0) 26(55,0) 27(163,0) 28(272,0) 29(381,0) 30(489,0) 31(598,0) 32(707,0) 33(815,0) 34(-869,-100) 35(-761,-100) 36(-652,-100) 37(-543,-100) 38(-435,-100) 39(-326,-100) 40(-217,-100) 41(-109,-100) 42(0,-100) 43(109,-100) 44(217,-100) 45(326,-100) 46(435,-100) 47(543,-100) 48(652,-100) 49(761,-100) 50(869,-100)
  round 200 hole 130: G1(-1203,0) G2(1203,0)
Top Overlay:
  drawing of 201 lines, arcs and shapes, not listed
  text "2,54" at -1248,-300 h77.5
  text "1" at -1013,75 h77.5
  text "18" at -1013,-25 h77.5
  text "34" at -1013,-125 h77.5
  text "17" at 933,80 h77.5
  text "33" at 933,-25 h77.5
  text "50" at 933,-125 h77.5
  text "M50" at -988,-435 h77.5
Mechanical 2:
  text ">NAME" at -1300,200 h108.5
Mechanical 4:
  text ">VALUE" at -953,-855 h108.5
Mechanical 16:
  lines w32: -869,-130 -869,-70 ; -869,60 -869,100 ; -815,-40 -815,0 ; -761,-130 -761,-70 ; -761,60 -761,100 ; -706,-40 -706,0 ; -652,-130 -652,-70 ; -652,60 -652,100 ; -598,-40 -598,0 ; -543,-130 -543,-70 ; -543,60 -543,100 ; -489,-40 -489,0 ; -435,-130 -435,-70 ; -435,60 -435,100 ; -380,-40 -380,0 ; -326,-130 -326,-70 ; -326,60 -326,100 ; -272,-40 -272,0 ; -217,-130 -217,-70 ; -217,60 -217,100 ; -163,-40 -163,0 ; -109,-129 -109,-69 ; -109,60 -109,100 ; -54,-40 -54,0 ; 0,-130 0,-70 ; 0,60 0,100 ; 55,-40 55,0 ; 109,-130 109,-70 ; 109,60 109,100 ; 163,-40 163,0 ; 217,-130 217,-70 ; 217,60 217,100 ; 272,-40 272,0 ; 326,-130 326,-70 ; 326,60 326,100 ; 381,-40 381,0 ; 435,-130 435,-70 ; 435,60 435,100 ; 489,-40 489,0 ; 543,-130 543,-70 ; 543,60 543,100 ; 598,-40 598,0 ; 652,-130 652,-70 ; 652,60 652,100 ; 707,-40 707,0 ; 761,-130 761,-70 ; 761,60 761,100 ; 815,-40 815,0 ; 869,-130 869,-70 ; 869,60 869,100

## M50V [mil]
pads (52):
  round 130 hole 130: 1(-1203,0) 1(1203,0)
  oct 60x60 hole 40: 1(-869,112) 2(-761,112) 3(-652,112) 4(-543,112) 5(-435,112) 6(-326,112) 7(-217,112) 8(-109,112) 9(0,112) 10(109,112) 11(217,112) 12(326,112) 13(435,112) 14(543,112) 15(652,112) 16(761,112) 17(869,112) 18(-815,0) 19(-706,0) 20(-598,0) 21(-489,0) 22(-380,0) 23(-272,0) 24(-163,0) 25(-54,0) 26(54,0) 27(163,0) 28(272,0) 29(380,0) 30(489,0) 31(598,0) 32(706,0) 33(815,0) 34(-869,-112) 35(-761,-112) 36(-652,-112) 37(-543,-112) 38(-435,-112) 39(-326,-112) 40(-217,-112) 41(-109,-112) 42(0,-112) 43(109,-112) 44(217,-112) 45(326,-112) 46(435,-112) 47(543,-112) 48(652,-112) 49(761,-112) 50(869,-112)
Top Overlay:
  circle w6: c-1203,0 r65
  circle w6: c1203,0 r65
  lines w6: -1046,148 -1015,-172 ; -1045.68,145 cw(c-979.14,158.17) -979,226 979,226 cw(c979.29,158.03) 1046,145 ; -1031,148 -1000,-172 ; -1030.97,148 cw(c-979.16,158.2) -979,211 979,211 cw(c979.22,158.06) 1031,147 1000,-171 ; -1016.4,-166.99 ccw(c-949,-158) -949,-226 949,-226 ccw(c949.04,-157.94) 1017,-161.7 ; -1000.3,-171.33 ccw(c-949,-158) -949,-211 949,-211 ccw(c949.23,-157.7) 1001,-170.37 ; 1016,-169 1046,147 ; -1213,-301 -1213,-296 -1113,-296 -1113,-301 ; -1213,-301 -1113,-301 ; -1213,-301 -1298,-301 cw(c-1298,-276) -1323,-276 -1323,276 cw(c-1298,276) -1298,301 -1213,301 ; -1213,301 -1213,296 -1113,296 -1113,301 ; -1213,301 -1113,301 ; -1113,-301 1113,-301 ; -1113,301 1113,301 ; 1113,-301 1113,-296 1213,-296 1213,-301 ; 1113,-301 1213,-301 ; 1113,301 1113,296 1213,296 1213,301 ; 1113,301 1213,301 ; 1213,-301 1298,-301 ccw(c1298,-276) 1323,-276 1323,276 ccw(c1298,276) 1298,301 1213,301
  text "9" at -14,156 h60.45
  text "42" at -30,-194 h60.45
  text "17" at 856,156 h60.45
  text "16" at 746,156 h60.45
  text "15" at 641,156 h60.45
  text "14" at 531,156 h60.45
  text "13" at 421,156 h60.45
  text "12" at 311,156 h60.45
  text "11" at 206,156 h60.45
  text "10" at 96,156 h60.45
  text "8" at -134,156 h60.45
  text "7" at -239,156 h60.45
  text "6" at -349,156 h60.45
  text "5" at -459,156 h60.45
  text "4" at -572,157 h60.45
  text "3" at -682,157 h60.45
  text "2" at -792,157 h60.45
  text "1" at -902,157 h60.45
  text "18" at -932,-23 h60.45
  text "33" at 878,-18 h60.45
  text "34" at -895,-194 h60.45
  text "35" at -785,-194 h60.45
  text "36" at -680,-194 h60.45
  text "37" at -570,-194 h60.45
  text "38" at -460,-194 h60.45
  text "39" at -355,-194 h60.45
  text "40" at -245,-194 h60.45
  text "41" at -135,-194 h60.45
  text "43" at 80,-194 h60.45
  text "44" at 190,-194 h60.45
  text "45" at 293,-194 h60.45
  text "46" at 403,-194 h60.45
  text "47" at 518,-194 h60.45
  text "48" at 628,-194 h60.45
  text "49" at 733,-194 h60.45
  text "50" at 838,-194 h60.45
Mechanical 2:
  text ">NAME" at -1318,331 h108.5
Mechanical 4:
  text ">VALUE" at -100,331 h108.5
Mechanical 9:
  circle w0: c1203,0 r105
  circle w0: c-1203,0 r105
Mechanical 10:
  circle w0: c1203,0 r105
  circle w0: c-1203,0 r105
Mechanical 16:
  circle w16: c-109,112 r10
  circle w16: c-163,0 r10
  circle w16: c-217,112 r10
  circle w16: c0,112 r10
  circle w16: c-54,0 r10
  circle w16: c54,0 r10
  circle w16: c109,112 r10
  circle w16: c217,112 r10
  circle w16: c163,0 r10
  circle w16: c272,0 r10
  circle w16: c326,112 r10
  circle w16: c380,0 r10
  circle w16: c435,112 r10
  circle w16: c489,0 r10
  circle w16: c543,112 r10
  circle w16: c652,112 r10
  circle w16: c598,0 r10
  circle w16: c-326,112 r10
  circle w16: c-272,0 r10
  circle w16: c-380,0 r10
  circle w16: c-435,112 r10
  circle w16: c-543,112 r10
  circle w16: c-652,112 r10
  circle w16: c-489,0 r10
  circle w16: c-598,0 r10
  circle w16: c761,112 r10
  circle w16: c869,112 r10
  circle w16: c706,0 r10
  circle w16: c815,0 r10
  circle w16: c-761,112 r10
  circle w16: c-869,112 r10
  circle w16: c-706,0 r10
  circle w16: c-815,0 r10
  circle w16: c-109,-112 r10
  circle w16: c-217,-112 r10
  circle w16: c0,-112 r10
  circle w16: c109,-112 r10
  circle w16: c217,-112 r10
  circle w16: c326,-112 r10
  circle w16: c435,-112 r10
  circle w16: c543,-112 r10
  circle w16: c652,-112 r10
  circle w16: c-326,-112 r10
  circle w16: c-435,-112 r10
  circle w16: c-543,-112 r10
  circle w16: c-652,-112 r10
  circle w16: c761,-112 r10
  circle w16: c869,-112 r10
  circle w16: c-761,-112 r10
  circle w16: c-869,-112 r10

## M50VB [mil]
pads (50):
  oct 60x60 hole 40: 1(869,-112) 2(761,-112) 3(652,-112) 4(543,-112) 5(435,-112) 6(326,-112) 7(217,-112) 8(109,-112) 9(0,-112) 10(-109,-112) 11(-217,-112) 12(-326,-112) 13(-435,-112) 14(-543,-112) 15(-652,-112) 16(-761,-112) 17(-869,-112) 18(815,0) 19(706,0) 20(598,0) 21(489,0) 22(380,0) 23(272,0) 24(163,0) 25(54,0) 26(-54,0) 27(-163,0) 28(-272,0) 29(-380,0) 30(-489,0) 31(-598,0) 32(-706,0) 33(-815,0) 34(869,112) 35(761,112) 36(652,112) 37(543,112) 38(435,112) 39(326,112) 40(217,112) 41(109,112) 42(0,112) 43(-109,112) 44(-217,112) 45(-326,112) 46(-435,112) 47(-543,112) 48(-652,112) 49(-761,112) 50(-869,112)
Top Overlay:
  lines w6: -1046,-147 -1016,169 ; -1045.69,-144.67 ccw(c-979,-157.99) -979,-226 979,-226 ccw(c979.16,-157.87) 1046,-144.67 ; -1031,-147 -1000,171 ; -1030.79,-146.7 ccw(c-979,-157.99) -979,-211 979,-211 ccw(c979.01,-157.99) 1031,-147.61 ; -1016.89,162 cw(c-949.14,158.15) -949,226 949,226 cw(c949.3,157.66) 1017,167 ; -1000.52,171 cw(c-949.39,158.31) -949,211 949,211 cw(c949.78,157.88) 1001,172 ; 1000,172 1031,-148 ; 1015,172 1046,-148 ; -1213,-301 -1298,-301 cw(c-1298,-276) -1323,-276 -1323,276 cw(c-1298,276) -1298,301 -1213,301 ; -1213,-301 -1213,-296 -1113,-296 -1113,-301 ; -1213,-301 -1113,-301 ; -1213,301 -1113,301 ; -1213,301 -1213,296 -1113,296 -1113,301 ; -1113,-301 1113,-301 ; -1113,301 1113,301 ; 1113,-301 1113,-296 1213,-296 1213,-301 ; 1113,-301 1213,-301 ; 1113,301 1213,301 ; 1113,301 1113,296 1213,296 1213,301 ; 1213,-301 1298,-301 ccw(c1298,-276) 1323,-276 1323,276 ccw(c1298,276) 1298,301 1213,301
  text "9" at 14,-156 h60.45
  text "42" at 30,194 h60.45
  text "17" at -856,-156 h60.45
  text "16" at -746,-156 h60.45
  text "15" at -641,-156 h60.45
  text "14" at -531,-156 h60.45
  text "13" at -421,-156 h60.45
  text "12" at -311,-156 h60.45
  text "11" at -206,-156 h60.45
  text "10" at -96,-156 h60.45
  text "8" at 134,-156 h60.45
  text "7" at 239,-156 h60.45
  text "6" at 349,-156 h60.45
  text "5" at 459,-156 h60.45
  text "4" at 572,-157 h60.45
  text "3" at 682,-157 h60.45
  text "2" at 792,-157 h60.45
  text "1" at 902,-157 h60.45
  text "18" at 932,23 h60.45
  text "33" at -878,18 h60.45
  text "34" at 895,194 h60.45
  text "35" at 785,194 h60.45
  text "36" at 680,194 h60.45
  text "37" at 570,194 h60.45
  text "38" at 460,194 h60.45
  text "39" at 355,194 h60.45
  text "40" at 245,194 h60.45
  text "41" at 135,194 h60.45
  text "43" at -80,194 h60.45
  text "44" at -190,194 h60.45
  text "45" at -293,194 h60.45
  text "46" at -403,194 h60.45
  text "47" at -518,194 h60.45
  text "48" at -628,194 h60.45
  text "49" at -733,194 h60.45
  text "50" at -838,194 h60.45
Mechanical 2:
  text ">NAME" at -1318,331 h108.5
Mechanical 4:
  text ">VALUE" at -100,331 h108.5
Mechanical 16:
  circle w16: c109,-112 r10
  circle w16: c163,0 r10
  circle w16: c217,-112 r10
  circle w16: c0,-112 r10
  circle w16: c54,0 r10
  circle w16: c-54,0 r10
  circle w16: c-109,-112 r10
  circle w16: c-217,-112 r10
  circle w16: c-163,0 r10
  circle w16: c-272,0 r10
  circle w16: c-326,-112 r10
  circle w16: c-380,0 r10
  circle w16: c-435,-112 r10
  circle w16: c-489,0 r10
  circle w16: c-543,-112 r10
  circle w16: c-652,-112 r10
  circle w16: c-598,0 r10
  circle w16: c326,-112 r10
  circle w16: c272,0 r10
  circle w16: c380,0 r10
  circle w16: c435,-112 r10
  circle w16: c543,-112 r10
  circle w16: c652,-112 r10
  circle w16: c489,0 r10
  circle w16: c598,0 r10
  circle w16: c-761,-112 r10
  circle w16: c-869,-112 r10
  circle w16: c-706,0 r10
  circle w16: c-815,0 r10
  circle w16: c761,-112 r10
  circle w16: c869,-112 r10
  circle w16: c706,0 r10
  circle w16: c815,0 r10
  circle w16: c109,112 r10
  circle w16: c217,112 r10
  circle w16: c0,112 r10
  circle w16: c-109,112 r10
  circle w16: c-217,112 r10
  circle w16: c-326,112 r10
  circle w16: c-435,112 r10
  circle w16: c-543,112 r10
  circle w16: c-652,112 r10
  circle w16: c326,112 r10
  circle w16: c435,112 r10
  circle w16: c543,112 r10
  circle w16: c652,112 r10
  circle w16: c-761,112 r10
  circle w16: c-869,112 r10
  circle w16: c761,112 r10
  circle w16: c869,112 r10